# EAGLE library part M6-10M (library con-vg)
CONNECTOR male, 6 pins + 10 coax type C, rows ABC, grid 2.54 mm
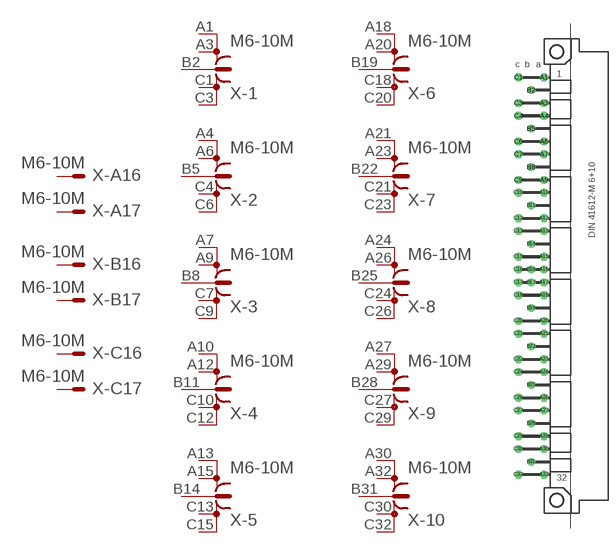
[diagram p100: symbol with the pads of M6-10M; footprint M6-10M]

Designator prefix X; gates -A16=MVAL -A17=MVAL -B16=MVAL -B17=MVAL -C16=MVAL -C17=MVAL -1=COAX -2=COAX -3=COAX -4=COAX -5=COAX -6=COAX -7=COAX -8=COAX -9=COAX -10=COAX

## M6-10M  [M6-10M]
A1  -1:S1  pas
A3  -1:S2  pas
A4  -2:S1  pas
A6  -2:S2  pas
A7  -3:S1  pas
A9  -3:S2  pas
A10  -4:S1  pas
A12  -4:S2  pas
A13  -5:S1  pas
A15  -5:S2  pas
A16  -A16:S  pas
A17  -A17:S  pas
A18  -6:S1  pas
A20  -6:S2  pas
A21  -7:S1  pas
A23  -7:S2  pas
A24  -8:S1  pas
A26  -8:S2  pas
A27  -9:S1  pas
A29  -9:S2  pas
A30  -10:S1  pas
A32  -10:S2  pas
B2  -1:S  pas
B5  -2:S  pas
B8  -3:S  pas
B11  -4:S  pas
B14  -5:S  pas
B16  -B16:S  pas
B17  -B17:S  pas
B19  -6:S  pas
B22  -7:S  pas
B25  -8:S  pas
B28  -9:S  pas
B31  -10:S  pas
C1  -1:S3  pas
C3  -1:S4  pas
C4  -2:S3  pas
C6  -2:S4  pas
C7  -3:S3  pas
C9  -3:S4  pas
C10  -4:S3  pas
C12  -4:S4  pas
C13  -5:S3  pas
C15  -5:S4  pas
C16  -C16:S  pas
C17  -C17:S  pas
C18  -6:S3  pas
C20  -6:S4  pas
C21  -7:S3  pas
C23  -7:S4  pas
C24  -8:S3  pas
C26  -8:S4  pas
C27  -9:S3  pas
C29  -9:S4  pas
C30  -10:S3  pas
C32  -10:S4  pas

## Footprint M6-10M (pad centres in mm)
CONNECTOR male, 6 pins + 10 coax type C, rows ABC, grid 2.54 mm
drill 1.016 octagon: A1 -2.54,39.37; A3 -2.54,34.29; A4 -2.54,31.75; A6 -2.54,26.67; A7 -2.54,24.13; A9 -2.54,19.05; A10 -2.54,16.51; A12 -2.54,11.43; A13 -2.54,8.89; A15 -2.54,3.81; A16 -2.54,1.27; A17 -2.54,-1.27; A18 -2.54,-3.81; A20 -2.54,-8.89; A21 -2.54,-11.43; A23 -2.54,-16.51; A24 -2.54,-19.05; A26 -2.54,-24.13; A27 -2.54,-26.67; A29 -2.54,-31.75; A30 -2.54,-34.29; A32 -2.54,-39.37; B2 -5.08,36.83; B5 -5.08,29.21; B8 -5.08,21.59; B11 -5.08,13.97; B14 -5.08,6.35; B16 -5.08,1.27; B17 -5.08,-1.27; B19 -5.08,-6.35; B22 -5.08,-13.97; B25 -5.08,-21.59; B28 -5.08,-29.21; B31 -5.08,-36.83; C1 -7.62,39.37; C3 -7.62,34.29; C4 -7.62,31.75; C6 -7.62,26.67; C7 -7.62,24.13; C9 -7.62,19.05; C10 -7.62,16.51; C12 -7.62,11.43; C13 -7.62,8.89; C15 -7.62,3.81; C16 -7.62,1.27; C17 -7.62,-1.27; C18 -7.62,-3.81; C20 -7.62,-8.89; C21 -7.62,-11.43; C23 -7.62,-16.51; C24 -7.62,-19.05; C26 -7.62,-24.13; C27 -7.62,-26.67; C29 -7.62,-31.75; C30 -7.62,-34.29; C32 -7.62,-39.37
hole 2.8 at 0,44.45
hole 2.8 at 0,-44.45